# Altium schematic symbol library AMAP4BPEVBKXR Rev 2.SCHLIB: 87 symbols (part 2 of 3)
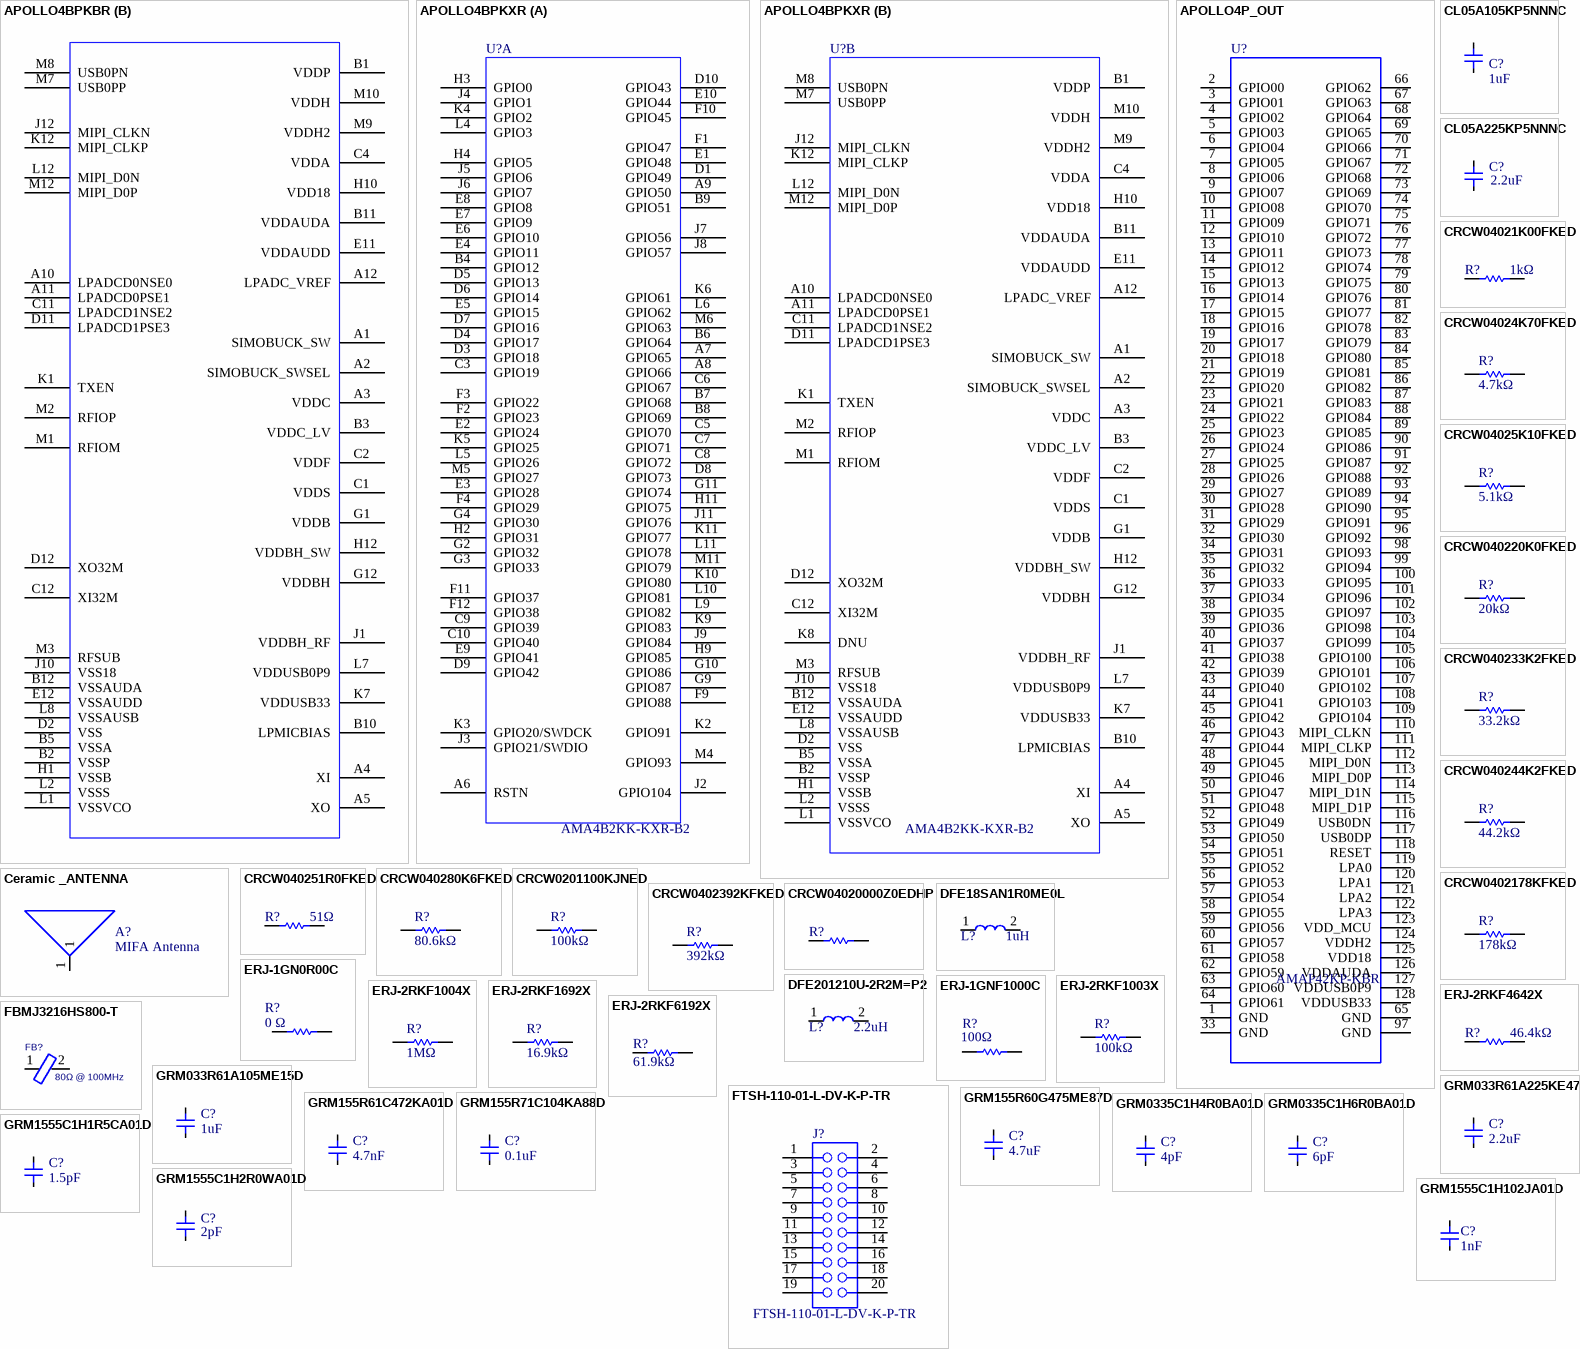
[diagram p3: symbols APOLLO4BPKBR to GRM1555C1H102JA01D]

## DFE201210U-2R2M=P2
designator L?, comment 2.2uH
NONE; Manufacturer: Murata; AMBIQ PN: DFE201210U-2R2M=P2; Supplier 1: Arrow Electronics; Supplier Part Number 1: DFE201210U-2R2M=P2; Manufacturer Part Number: DFE201210U-2R2M=P2; RoHS: Yes; Category: Fixed Inductors; Stock 1: 206; Pricing 1: 1=0.40140, 10=0.29940, 25=0.27320, 100=0.22140 (USD); RoHS Compliant: Yes; ComponentLink1URL: http://search.murata.co.jp/Ceramy/image/img/P02/J(E)TE243A-0029_DFE201210U_reference.pdf?src-supplier=Digi-Key; ComponentLink1Description: http://search.murata.co.jp/Ceramy/image/img/P02/J(E)TE243A-0029_DFE201210U_reference.pdf?src-supplier=Digi-Key; Case/Package: 0805
footprint IPC_A
footprint IPC_B
footprint IPC_C
footprint MFG
pins: 1, 2

## ERJ-1GN0R00C
designator R?, comment 0 Ω
ERJ Series 0201 0 Ohm 0.05 W Jumper Surface Mount Thick Film Chip Resistor; Manufacturer: Panasonic; AMBIQ PN: ERJ-1GN0R00C; Resistance: 0R; Power Rating: 50mW; Voltage Rating: 25V; Temperature Coefficient: 600ppm/°C; Tolerance: 1%; Supplier 1: RSComponents; Supplier Part Number 1: 1755716; Manufacturer Part Number: ERJ-1GN0R00C; RoHS: Yes; Category: Chip SMD Resistors; Stock 1: 577637; Pricing 1: 15000=0.00500 (GBP); Mount: Surface Mount; Case/Package: 0201; Case Code (Metric): 0603; Case Code (Imperial): 0201; Contact Plating: Tin; Min Operating Temperature: -55°C; Max Operating Temperature: 125°C; Package Quantity: 15000; Packaging: Tape and Reel; Resistor Type: Thick Film; Number of Terminations: 2; Max Power Dissipation: 50mW; Voltage Rating (DC): 25V; Features: Automotive AEC-Q200; Series: ERJ; Construction: Rectangular; Length: 0.6mm; Width: 0.3mm; Height: 0.23mm; Depth: 0.3mm
footprint IPC_A
footprint IPC_B
footprint IPC_C
footprint MFG
pins: 1, 2
1 alternate drawing of the same symbol

## ERJ-1GNF1000C
designator R?, comment 100Ω
Res Thick Film 0201 100 Ohm 1% 1/20W ±200ppm/°C Molded SMD Pressed Carrier T/R; Manufacturer: Panasonic; AMBIQ PN: ERJ-1GNF1000C; Resistance: 100R; Power Rating: 50mW; Voltage Rating: 25V; Supplier 1: Arrow Electronics; Supplier Part Number 1: ERJ-1GNF1000C; Manufacturer Part Number: ERJ-1GNF1000C; RoHS: Yes; Category: Chip SMD Resistors; Stock 1: 15000; Pricing 1: 15000=0.00660, 30000=0.00560, 75000=0.00530, 105000=0.00520 (USD); Mount: Surface Mount; Case/Package: 0201; Weight: 6E-06oz; Case Code (Metric): 0603; Case Code (Imperial): 0201; Contact Plating: Tin,Matte; Min Operating Temperature: -55°C; Max Operating Temperature: 125°C; Package Quantity: 15000; Packaging: Tape and Reel; Resistor Type: Thick Film; Number of Terminations: 2; Termination: SMD/SMT; Max Power Dissipation: 50mW; Temperature Coefficient: 200ppm/°C; Voltage Rating (DC): 25V; Series: ERJ; Technology: THICK FILM; Construction: Rectangular; Length: 0.6mm; Width: 0.012inch; Height: 0.01inch; Depth: 0.3mm; Radiation Hardening: No; REACH SVHC: No SVHC; Military Standard: Not; Lead Free: Lead Free; RoHS Compliant: Yes; ComponentLink1URL: https://datasheet.ciiva.com/43467/1678782-43467030.pdf?src-supplier=Farnell; ComponentLink1Description: https://datasheet.ciiva.com/43467/1678782-43467030.pdf?src-supplier=Farnell; ComponentLink2URL: https://datasheet.ciiva.com/28514/1678782-28514079.pdf?src-supplier=Element14; ComponentLink2Description: https://datasheet.ciiva.com/28514/1678782-28514079.pdf?src-supplier=Element14; ComponentLink3URL: https://datasheet.ciiva.com/24162/aoa0000ce2-24162875.pdf?src-supplier=Mouser; Tolerance: 1%; Number of Pins: 2; Resistance Tolerance: 1%; Working Voltage: 25V; ComponentLink3Description: https://datasheet.ciiva.com/24162/aoa0000ce2-24162
footprint IPC_A
footprint IPC_B
footprint IPC_C
footprint MFG
pins: 1, 2
1 alternate drawing of the same symbol

## ERJ-2RKF1003X
designator R?, comment 100kΩ
RES SMD 100K OHM 1% 1/10W 0402; Manufacturer: Panasonic; AMBIQ PN: ERJ-2RKF1003X; Resistance: 100kR; Power Rating: 100mW; Voltage Rating: 50V; Temperature Coefficient: 100ppm/°C; Supplier 1: Arrow Electronics; Supplier Part Number 1: ERJ-2RKF1003X; Manufacturer Part Number: ERJ-2RKF1003X; RoHS: Yes; Category: Chip SMD Resistors; Stock 1: 267708; Pricing 1: 10000=0.00840 (USD); Mount: Surface Mount; Case/Package: 0402; Weight: 0.000388oz; Case Code (Metric): 1005; Case Code (Imperial): 0402; Contact Plating: Tin; Min Operating Temperature: -55°C; Max Operating Temperature: 155°C; Package Quantity: 10000; Packaging: Cut Tape; Resistor Type: Thick Film; Number of Terminations: 2; Termination: SMD/SMT; Max Power Dissipation: 100mW; Voltage Rating (DC): 50V; Features: Automotive AEC-Q200; Series: ERJ-2Rx; Technology: THICK FILM; Length: 1mm; Width: 0.5mm; Height: 0.35mm; Depth: 0.5mm; Radiation Hardening: No; REACH SVHC: No SVHC; Military Standard: Not; Lead Free: Lead Free; RoHS Compliant: Yes; ComponentLink1URL: https://datasheet.ciiva.com/34303/1987038-34303550.pdf?src-supplier=Jameco; ComponentLink1Description: https://datasheet.ciiva.com/34303/1987038-34303550.pdf?src-supplier=Jameco; ComponentLink2URL: https://datasheet.ciiva.com/11821/0900766b80f80784-11821175.pdf?src-supplier=RSComponents; ComponentLink2Description: https://datasheet.ciiva.com/11821/0900766b80f80784-11821175.pdf?src-supplier=RSComponents; ComponentLink3URL: https://datasheet.ciiva.com/7830/aoa0000ce2-7830725.pdf?src-supplier=Element14; Tolerance: 1%; Number of Pins: 2
footprint IPC_A
footprint IPC_B
footprint IPC_C
footprint MFG
pins: 1, 2
1 alternate drawing of the same symbol

## ERJ-2RKF1004X
designator R?, comment 1MΩ
RES SMD 1M OHM 1% 1/10W 0402; Manufacturer: Panasonic; AMBIQ PN: ERJ-2RKF1004X; Resistance: 1MR; Power Rating: 100mW; Voltage Rating: 50V; Temperature Coefficient: 100ppm/°C; Supplier 1: Arrow Electronics; Supplier Part Number 1: ERJ-2RKF1004X; Manufacturer Part Number: ERJ-2RKF1004X; RoHS: Yes; Category: Chip SMD Resistors; Stock 1: 330000; Pricing 1: 10000=0.00500, 30000=0.00450, 50000=0.00440, 100000=0.00400 (USD); Mount: Surface Mount; Case/Package: 0402; Weight: 2.8E-05oz; Case Code (Metric): 1005; Case Code (Imperial): 0402; Contact Plating: Tin; Min Operating Temperature: -55°C; Max Operating Temperature: 155°C; Package Quantity: 1; Packaging: Tape and Reel; Resistor Type: Thick Film; Number of Terminations: 2; Termination: SMD/SMT; Max Power Dissipation: 100mW; Voltage Rating (DC): 50V; Features: Automotive AEC-Q200; Series: ERJ; Technology: THICK FILM; Construction: Rectangular; Length: 1mm; Width: 0.02inch; Height: 0.35mm; Depth: 0.5mm; Radiation Hardening: No; REACH SVHC: Yes; Military Standard: Not; Lead Free: Lead Free; RoHS Compliant: Yes; ComponentLink1URL: https://datasheet.ciiva.com/34303/1987046-34303551.pdf; ComponentLink1Description: https://datasheet.ciiva.com/34303/1987046-34303551.pdf; ComponentLink2URL: https://datasheet.ciiva.com/11821/0900766b80f80784-11821229.pdf; ComponentLink2Description: https://datasheet.ciiva.com/11821/0900766b80f80784-11821229.pdf; ComponentLink3URL: https://datasheet.ciiva.com/7909/aoa0000ce2-7909180.pdf; Tolerance: 1%; Number of Pins: 2; Resistance Tolerance: 1%; Working Voltage: 50V
footprint IPC_A
footprint IPC_B
footprint IPC_C
footprint MFG
pins: 1, 2
1 alternate drawing of the same symbol

## ERJ-2RKF1692X
designator R?, comment 16.9kΩ
Res Thick Film 0402 16.9K Ohm 1% 1/10W ±100ppm/°C Molded SMD Punched Carrier T/R; Manufacturer: Panasonic; AMBIQ PN: ERJ-2RKF1692X; Resistance: 16.9kR; Power Rating: 100mW; Voltage Rating: 50V; Supplier 1: Arrow Electronics; Supplier Part Number 1: ERJ-2RKF1692X; Manufacturer Part Number: ERJ-2RKF1692X; RoHS: Yes; Category: Chip SMD Resistors; Stock 1: 49794; Pricing 1: 1=0.06510, 10=0.02940, 25=0.01530, 100=0.00800, 500=0.00790, 1000=0.00470, 3000=0.00380, 6000=0.00350, 15000=0.00270 (USD); Mount: Surface Mount; Case/Package: 0402; Weight: 2.8E-05oz; Case Code (Metric): 1005; Case Code (Imperial): 0402; Contact Plating: Tin; Min Operating Temperature: -55°C; Max Operating Temperature: 155°C; Package Quantity: 1; Packaging: Tape and Reel; Resistor Type: Thick Film; Number of Terminations: 2; Termination: SMD/SMT; Max Power Dissipation: 100mW; Temperature Coefficient: 100ppm/°C; Voltage Rating (DC): 50V; Features: Automotive AEC-Q200; Series: ERJ; Construction: Rectangular; Length: 1mm; Width: 0.02inch; Height: 0.016inch; Depth: 0.5mm; REACH SVHC: Unknown; Military Standard: Not; Lead Free: Lead Free; RoHS Compliant: Yes; ComponentLink1URL: https://datasheet.ciiva.com/7829/1678782-7829302.pdf?src-supplier=Element14; ComponentLink1Description: https://datasheet.ciiva.com/7829/1678782-7829302.pdf?src-supplier=Element14; ComponentLink2URL: https://datasheet.ciiva.com/22773/1678782-22773610.pdf?src-supplier=Farnell; ComponentLink2Description: https://datasheet.ciiva.com/22773/1678782-22773610.pdf?src-supplier=Farnell; ComponentLink3URL: https://datasheet.ciiva.com/22668/1678782-22668622.pdf?src-supplier=Element14; Tolerance: 1%; Resistance Tolerance: 1%; ComponentLink3Description: https://datasheet.ciiva.com/22668/1678782-22668622; ComponentLink4URL: https://datasheet.ciiva.com/22668/1678782-22668621; ComponentLink4Description: https://datasheet.ciiva.com/22668/1678782-22668621; ComponentLink5URL: https://datasheet.ciiva.com/28548/1694929-28548252; ComponentLink5Description: https://datasheet.ciiva.com/28548/1694929-28548252; ComponentLink6URL: https://datasheet.ciiva.com/46420/1678782-46420069; ComponentLink6Description: https://datasheet.ciiva.com/46420/1678782-46420069; ComponentLink7URL: https://datasheet.ciiva.com/16772/70260748-1677257; ComponentLink7Description: https://datasheet.ciiva.com/16772/70260748-1677257; ComponentLink8URL: https://datasheet.ciiva.com/16785/70260748-1678529; ComponentLink8Description: https://datasheet.ciiva.com/16785/70260748-1678529; ComponentLink9URL: https://datasheet.ciiva.com/9192/aoa0000ce2-919261; ComponentLink9Description: https://datasheet.ciiva.com/9192/aoa0000ce2-919261; ComponentLink10URL: https://datasheet.ciiva.com/30252/aoa0000ce2-30252; ComponentLink10Description: https://datasheet.ciiva.com/30252/aoa0000ce2-30252
footprint IPC_A
footprint IPC_B
footprint IPC_C
footprint MFG
pins: 1, 2
1 alternate drawing of the same symbol

## ERJ-2RKF4642X
designator R?, comment 46.4kΩ
Res Thick Film 0402 46.4K Ohm 1% 1/10W ±100ppm/°C Molded SMD Punched Carrier T/R; Manufacturer: Panasonic; AMBIQ PN: ERJ-2RKF4642X; Resistance: 46.4kR; Power Rating: 100mW; Voltage Rating: 50V; Supplier 1: Arrow Electronics; Supplier Part Number 1: ERJ-2RKF4642X; Manufacturer Part Number: ERJ-2RKF4642X; RoHS: Yes; Category: Chip SMD Resistors; Stock 1: 70000; Pricing 1: 10000=0.00520 (USD); Mount: Surface Mount; Case/Package: 0402; Case Code (Metric): 1005; Case Code (Imperial): 0402; Contact Plating: Tin; Min Operating Temperature: -55°C; Max Operating Temperature: 155°C; Package Quantity: 1; Packaging: Tape and Reel; Resistor Type: Thick Film; Number of Terminations: 2; Termination: SMD/SMT; Max Power Dissipation: 100mW; Temperature Coefficient: 100ppm/°C; Voltage Rating (DC): 50V; Features: Automotive AEC-Q200; Series: ERJ; Technology: THICK FILM; Construction: Rectangular; Length: 1mm; Width: 0.02inch; Height: 0.35mm; Depth: 0.5mm; Radiation Hardening: No; REACH SVHC: Yes; Military Standard: Not; Lead Free: Lead Free; RoHS Compliant: Yes; ComponentLink1URL: https://datasheet.ciiva.com/7870/aoa0000ce2-7870821.pdf?src-supplier=Element14; ComponentLink1Description: https://datasheet.ciiva.com/7870/aoa0000ce2-7870821.pdf?src-supplier=Element14; ComponentLink2URL: https://datasheet.ciiva.com/43467/1678782-43467454.pdf?src-supplier=Farnell; ComponentLink2Description: https://datasheet.ciiva.com/43467/1678782-43467454.pdf?src-supplier=Farnell; ComponentLink3URL: https://datasheet.ciiva.com/46372/1678782-46372975.pdf?src-supplier=Element14; Tolerance: 1%; Resistance Tolerance: 1%
footprint IPC_A
footprint IPC_B
footprint IPC_C
footprint MFG
pins: 1, 2
1 alternate drawing of the same symbol

## ERJ-2RKF6192X
designator R?, comment 61.9kΩ
Res Thick Film 0402 61.9K Ohm 1% 1/10W +/-100ppm/ßC Molded SMD Punched Carrier T/R; Manufacturer: Panasonic; AMBIQ PN: ERJ-2RKF6192X; Resistance: 61.9kR; Power Rating: 100mW; Voltage Rating: 50V; Temperature Coefficient: 100ppm/°C; Supplier 1: Arrow Electronics; Supplier Part Number 1: ERJ-2RKF6192X; Manufacturer Part Number: ERJ-2RKF6192X; RoHS: Yes; Category: Chip SMD Resistors; Stock 1: 50040; Pricing 1: 1=0.05180, 10=0.02920, 25=0.02020 (USD); Mount: Surface Mount; Case/Package: 0402; Case Code (Metric): 1005; Case Code (Imperial): 0402; Contact Plating: Tin; Min Operating Temperature: -55°C; Max Operating Temperature: 155°C; Package Quantity: 1; Packaging: Tape and Reel; Resistor Type: Thick Film; Number of Terminations: 2; Termination: SMD/SMT; Max Power Dissipation: 100mW; Voltage Rating (DC): 50V; Features: Automotive AEC-Q200; Series: ERJ; Construction: Rectangular; Length: 1mm; Width: 0.02inch; Height: 0.016inch; Depth: 0.5mm; REACH SVHC: No SVHC; Military Standard: Not; Lead Free: Lead Free; RoHS Compliant: Yes; ComponentLink1URL: https://datasheet.ciiva.com/31404/1678782-31404872.pdf?src-supplier=Farnell; ComponentLink1Description: https://datasheet.ciiva.com/31404/1678782-31404872.pdf?src-supplier=Farnell; ComponentLink2URL: https://datasheet.ciiva.com/6201/426256-6201383.pdf?src-supplier=Farnell; ComponentLink2Description: https://datasheet.ciiva.com/6201/426256-6201383.pdf?src-supplier=Farnell; ComponentLink3URL: https://datasheet.ciiva.com/43460/426256-43460335.pdf?src-supplier=Farnell; Tolerance: 1%; Resistance Tolerance: 1%
footprint IPC_A
footprint IPC_B
footprint IPC_C
footprint MFG
pins: 1, 2
1 alternate drawing of the same symbol

## FBMJ3216HS800-T
designator FB?, comment 80Ω @ 100MHz
NONE; Manufacturer: Taiyo Yuden; AMBIQ PN: FBMJ3216HS800-T; Core Material: Ferrite; Impedance: 80R; Tolerance: 25%; DC Resistance (DCR): 10mR; Max DC Current: 4A; Number of Lines: 1; Shielding: Unshielded; Supplier 1: Newark; Supplier Part Number 1: 86H5353; Manufacturer Part Number: FBMJ3216HS800-T; RoHS: Yes; Category: Ferrite Beads and Chips; Stock 1: 265; Pricing 1: 1=0.30000, 10=0.20700, 25=0.17700, 50=0.14800, 100=0.11800 (USD); ComponentLink1URL: https://datasheet.ciiva.com/5709/chipbeads01-e-5709344.pdf?src-supplier=Farnell; ComponentLink1Description: https://datasheet.ciiva.com/5709/chipbeads01-e-5709344.pdf?src-supplier=Farnell; Mount: Surface Mount; Case/Package: 1206; Number of Pins: 2; Case Code (Metric): 3216; Case Code (Imperial): 1206; Material: Ferrite; Min Operating Temperature: -40°C; Max Operating Temperature: 125°C; Packaging: Tape and Reel; Resistance: 10mR; Package Quantity: 1; Max Current Rating: 4A; Termination: SMD/SMT; Test Frequency: 100MHz; Frequency: 100MHz; Series: FB; Resistor Type: Ferrite Bead; Length: 3.2mm; Width: 0.063inch; Height: 1.3mm; Depth: 1.8mm; Lead Free: Lead Free; Halogen Free: Halogen Free; REACH SVHC: No SVHC; ComponentLink2URL: https://datasheet.ciiva.com/16001/202fbmj3216hs800-t-16001070.pdf?src-supplier=Onlinecomponents.com; ComponentLink2Description: https://datasheet.ciiva.com/16001/202fbmj3216hs800-t-16001070.pdf?src-supplier=Onlinecomponents.com; ComponentLink3URL: https://datasheet.ciiva.com/30088/23fbmj3216hs800-t-30088710.pdf?src-supplier=Onlinecomponents.com; ComponentLink3Description: https://datasheet.ciiva.com/30088/23fbmj3216hs800-t-30088710.pdf?src-supplier=Onlinecomponents.com; ComponentLink4URL: https://datasheet.ciiva.com/23606/fbmj3216hs800-t-ss-23606768.pdf?src-supplier=Newark; ComponentLink4Description: https://datasheet.ciiva.com/23606/fbmj3216hs800-t-ss-23606768.pdf?src-supplier=Newark; ComponentLink5URL: https://datasheet.ciiva.com/25614/0900766b810b37be-25614395.pdf?src-supplier=RSComponents; ComponentLink5Description: https://datasheet.ciiva.com/25614/0900766b810b37be-25614395.pdf?src-supplier=RSComponents; ComponentLink6URL: https://datasheet.ciiva.com/6212/chipbeads01-e-6212909.pdf?src-supplier=Digi-Key; ComponentLink6Description: https://datasheet.ciiva.com/6212/chipbeads01-e-6212909.pdf?src-supplier=Digi-Key; ComponentLink7URL: https://datasheet.ciiva.com/7966/chipbeads01-e-7966171.pdf?src-supplier=Element14; ComponentLink7Description: https://datasheet.ciiva.com/7966/chipbeads01-e-7966171.pdf?src-supplier=Element14
footprint IPC_A
footprint IPC_B
footprint IPC_C
pins: 1, 2

## FTSH-110-01-L-DV-K-P-TR
designator J?
None; Manufacturer: Samtec; Connector Type: Male Pin; Number of Contacts: 20; Pitch: 1.27mm; Max Current Rating: 1.75A; Row Spacing: 0.05inch; AMBIQ PN: FTSH-110-01-L-DV-K-P-TR; Supplier 1: Arrow Electronics; Supplier Part Number 1: FTSH-110-01-L-DV-K-P-TR; Manufacturer Part Number: FTSH-110-01-L-DV-K-P-TR; RoHS: Yes; Category: Headers and Wire Housings; Stock 1: 3600; Pricing 1: 400=4.22000 (USD); Mount: Surface Mount; Contact Material: Bronze; Contact Plating: Gold; Housing Material: Polymer; Min Operating Temperature: -55°C; Max Operating Temperature: 125°C; Packaging: Tape and Reel; Orientation: Straight; Termination: Solder; Length: 12.7mm; ComponentLink1URL: https://datasheet.ciiva.com/738/ftsh-1xx-xx-xxx-dv-xxx-mkt-738875.pdf?src-supplier=Digi-Key; ComponentLink1Description: https://datasheet.ciiva.com/738/ftsh-1xx-xx-xxx-dv-xxx-mkt-738875.pdf?src-supplier=Digi-Key; Housing Color: Black; Number of Rows: 2; Number of Positions: 20; Series: FTSH; Depth: 3.43mm; Radiation Hardening: No; Color: Black; Contact Type: Male Pin; Package Quantity: 400; Contact Mating Length: 0.12inch; Lead Free: Lead Free
footprint SAMTEC_FTSH-110-X-X-DV
pins: 1 A1, 2 B1, 3 A2, 4 B2, 5 A3, 6 B3, 7 A4, 8 B4, 9 A5, 10 B5, 11, 12, 13, 14, 15, 16, 17, 18, 19, 20

## GRM033R61A105ME15D
designator C?, comment 1uF
NONE; Manufacturer: Murata; AMBIQ PN: GRM033R61A105ME15D; Tolerance: 20%; Voltage Rating: 10V; Dielectric: X5R; Supplier 1: Arrow Electronics; Supplier Part Number 1: GRM033R61A105ME15D; Manufacturer Part Number: GRM033R61A105ME15D; RoHS: Yes; Category: Ceramic Capacitors; Stock 1: 387591; Pricing 1: 1=0.35440, 10=0.26860, 25=0.26600, 50=0.24050, 100=0.18220, 250=0.18020, 500=0.17800, 1000=0.12040, 3000=0.11920, 6000=0.08160,; Mount: Surface Mount; Case/Package: 0201; Case Code (Metric): 0603; Case Code (Imperial): 0201; Min Operating Temperature: -55°C; Max Operating Temperature: 85°C; Capacitance: 1uF; Packaging: Tape and Reel; Voltage Rating (DC): 10V; Length: 0.024inch; Width: 0.012inch; Thickness: 0.015inch; RoHS Compliant: Yes; ComponentLink1URL: http://search.murata.co.jp/Ceramy/image/img/A01X/G101/ENG/GRM033R61A105ME15-01.pdf?src-supplier=Digi-Key; ComponentLink1Description: http://search.murata.co.jp/Ceramy/image/img/A01X/G101/ENG/GRM033R61A105ME15-01.pdf?src-supplier=Digi-Key
footprint IPC_A
footprint IPC_B
footprint IPC_C
footprint MFG
pins: 1, 2

## GRM033R61A225KE47D
designator C?, comment 2.2uF
NONE; Manufacturer: Murata; AMBIQ PN: GRM033R61A225KE47D; Tolerance: 10%; Voltage Rating: 10V; Dielectric: X5R; Supplier 1: Arrow Electronics; Supplier Part Number 1: GRM033R61A225KE47D; Manufacturer Part Number: GRM033R61A225KE47D; RoHS: Yes; Category: Ceramic Capacitors; Stock 1: 990; Pricing 1: 1=0.27590, 10=0.23000, 25=0.18010, 100=0.10000, 250=0.09900, 500=0.06860, 1000=0.06790, 3000=0.06720, 6000=0.05140, 15000=0.050; Mount: Surface Mount; Case/Package: 0201; Case Code (Metric): 0603; Case Code (Imperial): 0201; Min Operating Temperature: -55°C; Max Operating Temperature: 85°C; Capacitance: 2.2uF; Packaging: Tape and Reel; Voltage Rating (DC): 10V; Length: 0.024inch; Width: 0.012inch; Thickness: 0.015inch; RoHS Compliant: Yes; ComponentLink1URL: http://search.murata.co.jp/Ceramy/image/img/A01X/G101/ENG/GRM033R61A225KE47-01.pdf?src-supplier=Digi-Key; ComponentLink1Description: http://search.murata.co.jp/Ceramy/image/img/A01X/G101/ENG/GRM033R61A225KE47-01.pdf?src-supplier=Digi-Key
footprint IPC_A
footprint IPC_B
footprint IPC_C
footprint MFG
pins: 1, 2

## GRM155R60G475ME87D
designator C?, comment 4.7uF
NONE; Manufacturer: Murata; AMBIQ PN: GRM155R60G475ME87D; Tolerance: 20%; Voltage Rating: 4V; Dielectric: X5R; Supplier 1: Arrow Electronics; Supplier Part Number 1: GRM155R60G475ME87D; Manufacturer Part Number: GRM155R60G475ME87D; RoHS: Yes; Category: Ceramic Capacitors; Stock 1: 79890; Pricing 1: 1=0.12440, 10=0.07530, 25=0.07460, 100=0.04310, 250=0.04270, 500=0.02940, 1000=0.02580, 3000=0.02370, 6000=0.02210, 15000=0.021; Mount: Surface Mount; Case/Package: 0402; Case Code (Metric): 1005; Case Code (Imperial): 0402; Min Operating Temperature: -55°C; Max Operating Temperature: 85°C; Capacitance: 4.7uF; Packaging: Tape and Reel; Voltage: 4V; Voltage Rating (DC): 4V; Series: GRM; Construction: Flat; Length: 1mm; Width: 0.02inch; Height: 0.5mm; Thickness: 0.026inch; Depth: 0.5mm; Radiation Hardening: No; REACH SVHC: No SVHC; Lead Free: Lead Free; RoHS Compliant: Yes; ComponentLink1URL: https://datasheet.ciiva.com/11613/c02e-11613181.pdf?src-supplier=Avnet; ComponentLink1Description: https://datasheet.ciiva.com/11613/c02e-11613181.pdf?src-supplier=Avnet
footprint IPC_A
footprint IPC_B
footprint IPC_C
footprint MFG
pins: 1, 2

## GRM155R61C472KA01D
designator C?, comment 4.7nF
NONE; Manufacturer: Murata; AMBIQ PN: GRM155R61C472KA01D; Tolerance: 10%; Voltage Rating: 16V; Dielectric: X5R; Supplier 1: Arrow Electronics; Supplier Part Number 1: GRM155R61C472KA01D; Manufacturer Part Number: GRM155R61C472KA01D; RoHS: Yes; Category: Ceramic Capacitors; Stock 1: 3; Pricing 1: 1=0.07090 (USD); Mount: Surface Mount; Case/Package: 0402; Case Code (Metric): 1005; Case Code (Imperial): 0402; Min Operating Temperature: -55°C; Max Operating Temperature: 85°C; Capacitance: 4.7nF; Packaging: Tape and Reel; Voltage Rating (DC): 16V; Series: GRM; Construction: Flat; Length: 1mm; Width: 0.02inch; Height: 0.5mm; Thickness: 0.022inch; Depth: 0.5mm; Radiation Hardening: No; RoHS Compliant: Yes; ComponentLink1URL: https://datasheet.ciiva.com/11620/product-11620403.pdf?src-supplier=Avnet; ComponentLink1Description: https://datasheet.ciiva.com/11620/product-11620403.pdf?src-supplier=Avnet; Package Quantity: 10000; Termination: SMD/SMT
footprint IPC_A
footprint IPC_B
footprint IPC_C
footprint MFG
pins: 1, 2

## GRM155R71C104KA88D
designator C?, comment 0.1uF
NONE; Manufacturer: Murata; AMBIQ PN: GRM155R71C104KA88D; Capacitance: 100nF; Tolerance: 10%; Voltage Rating: 16V; Dielectric: X7R; Dielectric Material: Ceramic; Insulation Resistance: 10GR; Supplier 1: Arrow Electronics; Supplier Part Number 1: GRM155R71C104KA88D; Manufacturer Part Number: GRM155R71C104KA88D; RoHS: Yes; Category: Ceramic Capacitors; Stock 1: 20200000; Pricing 1: 10000=0.00270, 30000=0.00220, 250000=0.00210 (USD); Mount: Surface Mount; Case/Package: 0402; Case Code (Metric): 1005; Case Code (Imperial): 0402; Min Operating Temperature: -55°C; Max Operating Temperature: 125°C; Packaging: Tape and Reel; Voltage: 16V; Voltage Rating (DC): 16V; Length: 1mm; Width: 0.5mm; Height: 0.5mm; Thickness: 0.022inch; Depth: 0.5mm; Radiation Hardening: No; REACH SVHC: No SVHC; Lead Free: Lead Free; RoHS Compliant: Yes; ComponentLink1URL: https://datasheet.ciiva.com/129/grm155r71c104ka88-01-129739.pdf?src-supplier=Digi-Key; ComponentLink1Description: https://datasheet.ciiva.com/129/grm155r71c104ka88-01-129739.pdf?src-supplier=Digi-Key; Package Quantity: 1; Termination: SMD/SMT; Number of Pins: 2; Material: Ceramic; ComponentLink2URL: https://datasheet.ciiva.com/129/grm155r71c104ka88-01-129740.pdf?src-supplier=Digi-Key; ComponentLink2Description: https://datasheet.ciiva.com/129/grm155r71c104ka88-01-129740.pdf?src-supplier=Digi-Key; ComponentLink3URL: https://datasheet.ciiva.com/18102/getdatasheetpartid-85307-18102905.pdf?src-supplier=Verical; ComponentLink3Description: https://datasheet.ciiva.com/18102/getdatasheetpartid-85307-18102905.pdf?src-supplier=Verical
footprint IPC_A
footprint IPC_B
footprint IPC_C
footprint MFG
pins: 1, 2

## GRM0335C1H4R0BA01D
designator C?, comment 4pF
NONE; Manufacturer: Murata; AMBIQ PN: GRM0335C1H4R0BA01D; Voltage Rating: 50V; Dielectric: C0G; Supplier 1: Arrow Electronics; Supplier Part Number 1: GRM0335C1H4R0BA01D; Manufacturer Part Number: GRM0335C1H4R0BA01D; RoHS: Yes; Category: Ceramic Capacitors; Stock 1: 3508; Pricing 1: 1=0.09680, 10=0.01620, 25=0.01560, 100=0.00890, 250=0.00860, 500=0.00620, 3000=0.00530 (USD); Mount: Surface Mount; Case/Package: 0201; Case Code (Metric): 0603; Case Code (Imperial): 0201; Min Operating Temperature: -55°C; Max Operating Temperature: 125°C; Capacitance: 4pF; Packaging: Tape and Reel; Voltage Rating (DC): 50V; Series: GRM; Length: 0.6mm; Width: 0.012inch; Height: 0.3mm; Thickness: 0.013inch; Depth: 0.3mm; ComponentLink1URL: http://www.mouser.com/ds/2/281/c02e-2905.pdf?src-supplier=Mouser; ComponentLink1Description: http://www.mouser.com/ds/2/281/c02e-2905.pdf?src-supplier=Mouser; Package Quantity: 15000; Termination: SMD/SMT
footprint IPC_A
footprint IPC_B
footprint IPC_C
footprint MFG
pins: 1, 2

## GRM0335C1H6R0BA01D
designator C?, comment 6pF
NONE; Manufacturer: Murata; AMBIQ PN: GRM0335C1H6R0BA01D; Voltage Rating: 50V; Dielectric: C0G; Supplier 1: Arrow Electronics; Supplier Part Number 1: GRM0335C1H6R0BA01D; Manufacturer Part Number: GRM0335C1H6R0BA01D; RoHS: Yes; Category: Ceramic Capacitors; Stock 1: 4052; Pricing 1: 1=0.06400, 10=0.01810, 25=0.01250, 100=0.00850, 250=0.00840, 500=0.00620, 1000=0.00510, 3000=0.00460 (USD); Mount: Surface Mount; Case/Package: 0201; Case Code (Metric): 0603; Case Code (Imperial): 0201; Min Operating Temperature: -55°C; Max Operating Temperature: 125°C; Capacitance: 6pF; Packaging: Tape and Reel; Voltage Rating (DC): 50V; Series: GRM; Length: 0.024inch; Width: 0.012inch; Height: 0.3mm; Thickness: 0.013inch; RoHS Compliant: Yes; ComponentLink1URL: http://www.mouser.com/ds/2/281/c02e-2905.pdf?src-supplier=Mouser; ComponentLink1Description: http://www.mouser.com/ds/2/281/c02e-2905.pdf?src-supplier=Mouser; Package Quantity: 15000; Termination: SMD/SMT
footprint IPC_A
footprint IPC_B
footprint IPC_C
footprint MFG
pins: 1, 2

## GRM1555C1H1R5CA01D
designator C?, comment 1.5pF
NONE; Manufacturer: Murata; AMBIQ PN: GRM1555C1H1R5CA01D; Supplier 1: Avnet; Supplier Part Number 1: GRM1555C1H1R5CA01D; Manufacturer Part Number: GRM1555C1H1R5CA01D; RoHS: Yes; Category: Ceramic Capacitors; Stock 1: 20000; Pricing 1: 10000=0.00487, 20000=0.00476, 40000=0.00465 (USD); Mount: Surface Mount; Case/Package: 0402; Case Code (Metric): 1005; Case Code (Imperial): 0402; Capacitance: 1.5pF; Mounting Technology: Surface Mount
footprint IPC_A
footprint IPC_B
footprint IPC_C
footprint MFG
pins: 1, 2

## GRM1555C1H2R0WA01D
designator C?, comment 2pF
NONE; Manufacturer: Murata; AMBIQ PN: GRM1555C1H2R0WA01D; Tolerance: 1%; Dielectric: C0G; Supplier 1: Arrow Electronics; Supplier Part Number 1: GRM1555C1H2R0WA01D; Manufacturer Part Number: GRM1555C1H2R0WA01D; RoHS: Yes; Category: Ceramic Capacitors; Stock 1: 54; Pricing 1: 1=0.10000, 10=0.05720, 25=0.05660, 100=0.03540, 250=0.03000 (USD); Mount: Surface Mount; Case/Package: 0402; Case Code (Metric): 1005; Case Code (Imperial): 0402; Capacitance: 2pF
footprint IPC_A
footprint IPC_B
footprint IPC_C
footprint MFG
pins: 1, 2

## GRM1555C1H102JA01D
designator C?, comment 1nF
NONE; Manufacturer: Murata; AMBIQ PN: GRM1555C1H102JA01D; Tolerance: 5%; Voltage Rating: 50V; Dielectric: C0G; Dielectric Material: Ceramic; Insulation Resistance: 10GR; Temperature Coefficient: 30ppm/°C; Supplier 1: Arrow Electronics; Supplier Part Number 1: GRM1555C1H102JA01D; Manufacturer Part Number: GRM1555C1H102JA01D; RoHS: Yes; Category: Ceramic Capacitors; Stock 1: 3380000; Pricing 1: 10000=0.00710, 20000=0.00680, 30000=0.00660, 50000=0.00590, 100000=0.00470 (USD); Mount: Surface Mount; Case/Package: 0402; Case Code (Metric): 1005; Case Code (Imperial): 0402; Min Operating Temperature: -55°C; Max Operating Temperature: 125°C; Capacitance: 1nF; Packaging: Tape and Reel; Voltage: 50V; Voltage Rating (DC): 50V; Series: GRM; Construction: Flat; Length: 1mm; Width: 0.5mm; Height: 0.5mm; Thickness: 0.022inch; Depth: 0.5mm; Radiation Hardening: No; REACH SVHC: No SVHC; Lead Free: Lead Free; RoHS Compliant: Yes; ComponentLink1URL: https://datasheet.ciiva.com/34302/1855908-34302849.pdf?src-supplier=Jameco; ComponentLink1Description: https://datasheet.ciiva.com/34302/1855908-34302849.pdf?src-supplier=Jameco; Package Quantity: 1; Termination: SMD/SMT; Number of Pins: 2; Material: Ceramic; Size: 0.5mm
footprint IPC_A
footprint IPC_B
footprint IPC_C
footprint MFG
pins: 1, 2

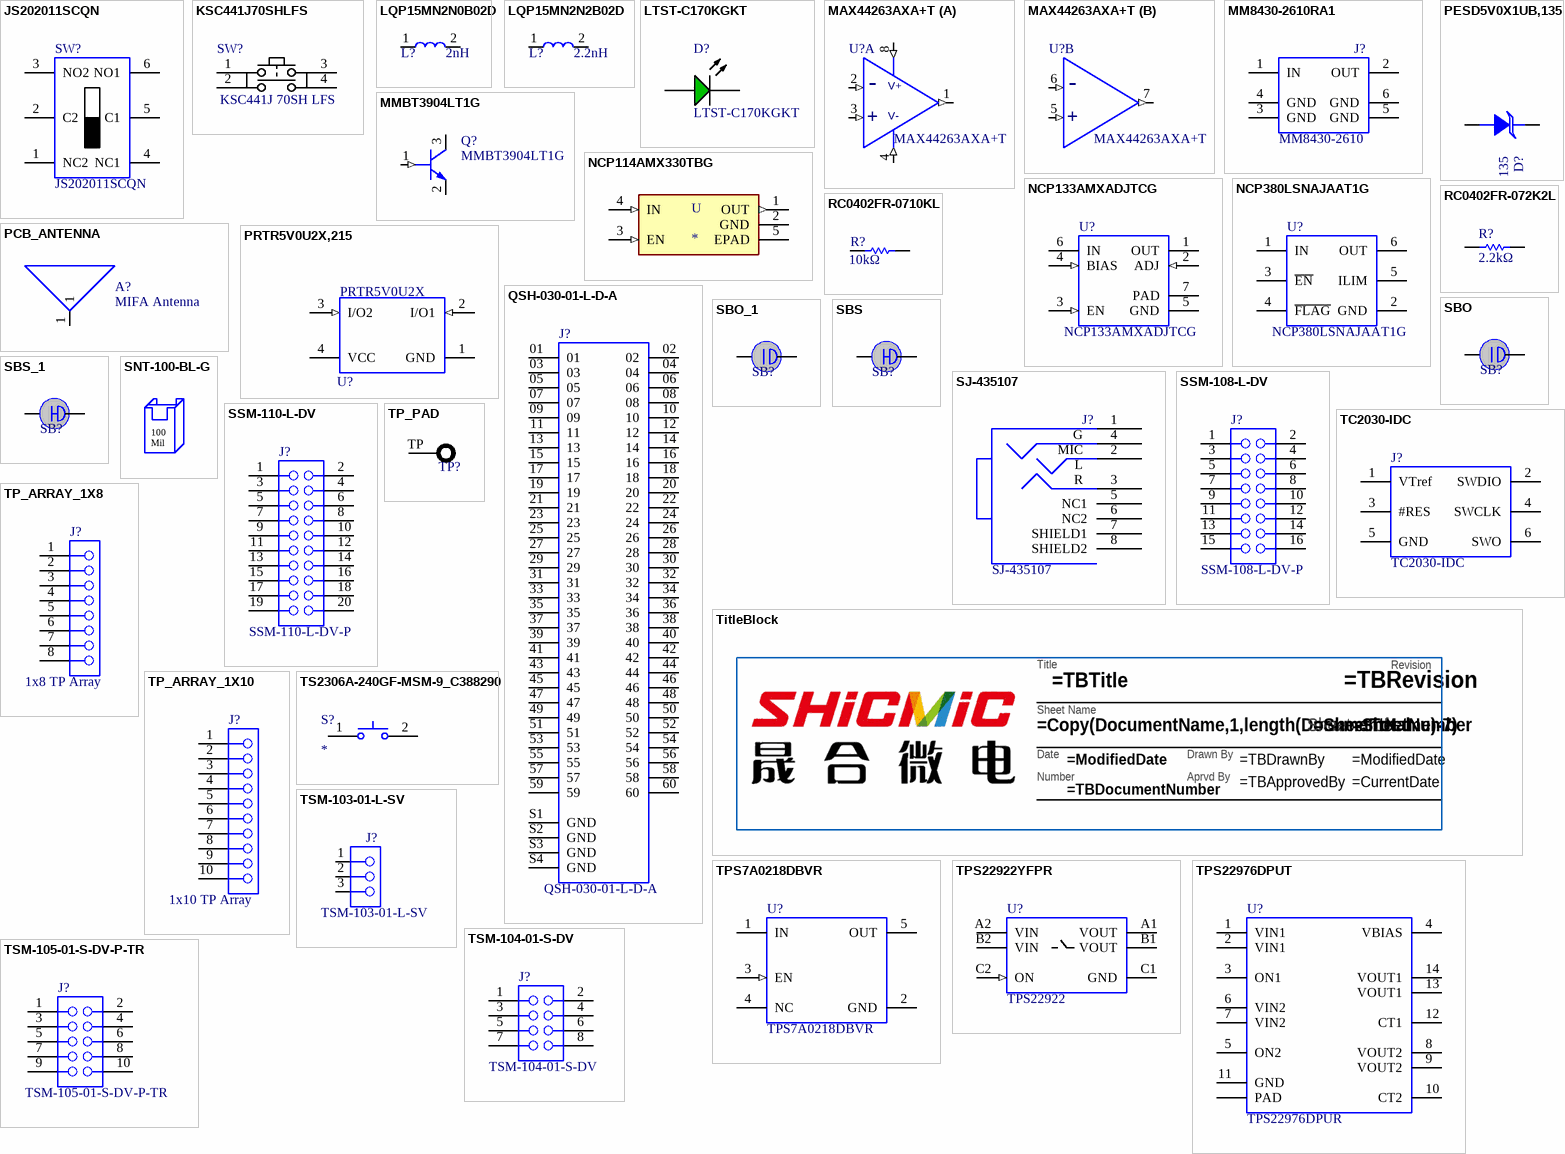
[diagram p2: symbols JS202011SCQN to TSM-105-01-S-DV-P-TR]

## JS202011SCQN
designator SW?
None; Manufacturer: ITT C&K; Actuator Material: Nylon,Polyamide,PA46; Actuator Color: Black; Voltage Rating (DC): 6V; Throw Configuration: DPDT; Contact Resistance: 70mR; Max Current Rating: 300mA; Electrical Life: 5000Cycles; Switch Travel: 2mm; Switch Function: On-On; Actuator Type: Standard; AMBIQ PN: JS202011SCQN; Supplier 1: Arrow Electronics; Supplier Part Number 1: JS202011SCQN; Manufacturer Part Number: JS202011SCQN; RoHS: Yes; Category: Slide Switches; Stock 1: 6839; Pricing 1: 1=0.49180, 10=0.48690, 25=0.45850, 100=0.40340, 250=0.35430, 500=0.33760, 1000=0.29540, 3000=0.27960, 6000=0.26000 (USD); Mount: Surface Mount; Package Quantity: 1; Series: JS; ComponentLink1URL: https://datasheet.ciiva.com/2889/js-29aug13-2889127.pdf?src-supplier=Digi-Key; ComponentLink1Description: https://datasheet.ciiva.com/2889/js-29aug13-2889127.pdf?src-supplier=Digi-Key; Contact Material: Copper Alloy; Contact Plating: Silver; Packaging: Tape and Reel; Termination: Gull Wing; Orientation: Vertical; Length: 9mm; Depth: 7.5mm; RoHS Compliant: Yes; REACH SVHC: No SVHC; Lead Free: Lead Free; ComponentLink2URL: https://datasheet.ciiva.com/23829/1707718-23829488.pdf?src-supplier=Newark; ComponentLink2Description: https://datasheet.ciiva.com/23829/1707718-23829488.pdf?src-supplier=Newark; ComponentLink3URL: https://datasheet.ciiva.com/22630/1707718-22630697.pdf?src-supplier=Element14; ComponentLink3Description: https://datasheet.ciiva.com/22630/1707718-22630697.pdf?src-supplier=Element14; ComponentLink4URL: https://datasheet.ciiva.com/2889/js-15sept15-2889128.pdf?src-supplier=Digi-Key; ComponentLink4Description: https://datasheet.ciiva.com/2889/js-15sept15-2889128.pdf?src-supplier=Digi-Key; ComponentLink5URL: https://datasheet.ciiva.com/2889/js-15sept15-2889129.pdf?src-supplier=Digi-Key; ComponentLink5Description: https://datasheet.ciiva.com/2889/js-15sept15-2889129.pdf?src-supplier=Digi-Key; ComponentLink6URL: https://datasheet.ciiva.com/8625/js-9dec14-8625470.pdf?src-supplier=Avnet; ComponentLink6Description: https://datasheet.ciiva.com/8625/js-9dec14-8625470.pdf?src-supplier=Avnet; Housing Material: Nylon; Min Operating Temperature: -20°C; Max Operating Temperature: 85°C; Max Voltage Rating (DC): 6V; Contact Current Rating: 300mA; Current Rating: 300mA; Actuator Length: 2mm; Radiation Hardening: No; Flammability Rating: UL94 V-2
footprint JS202011SCQN
pins: 1 NC2, 2 C2, 3 NO2, 4 NC1, 5 C1, 6 NO1

## KSC441J70SHLFS
designator SW?, comment KSC441J 70SH LFS
None; Manufacturer: ITT C&K; Voltage Rating (DC): 32V; Throw Configuration: SPST; Max Current Rating: 50mA; Switch Travel: 0.75mm; Switch Function: Off-Mom; Actuator Type: Standard; Actuator Length: 2.6mm; Mechanical Life: 300000Cycles; Operating Force: 5N; Power Rating: 1W; Illumination Type: Non-Illuminated,Illuminated; AMBIQ PN: KSC441J70SHLFS; Supplier 1: Newark; Supplier Part Number 1: 95W3295; Manufacturer Part Number: KSC441J70SHLFS; RoHS: Yes; Category: Tactile Switches; Stock 1: 1740; Pricing 1: 1=0.62700, 10=0.61200, 25=0.59100, 50=0.55000, 100=0.50900, 250=0.47500 (USD); Mount: Surface Mount; Package Quantity: 1000; Series: KSC; Contact Material: Silver; Contact Plating: Silver; Packaging: Tape and Reel; Termination: J-Bend; Orientation: Straight; Length: 6.2mm; Depth: 6.8mm; Size: 6.2mm; Min Operating Temperature: -40°C; Max Operating Temperature: 85°C; Max Voltage Rating (DC): 32V; Contact Current Rating: 50mA; Current Rating: 50mA
footprint SW4_SPST_7P7_SM
pins: 1 21, 2 22, 3 23, 4 24

## LQP15MN2N0B02D
designator L?, comment 2nH
NONE; Manufacturer: Murata; AMBIQ PN: LQP15MN2N0B02D; Core Material: Non-Magnetic; DC Resistance (DCR): 300mR; Max DC Current: 220mA; Test Frequency: 500MHz; Shielding: Unshielded; Q Factor: 13; Self Resonant Frequency: 6GHz; Current: 130mA; Supplier 1: Arrow Electronics; Supplier Part Number 1: LQP15MN2N0B02D; Manufacturer Part Number: LQP15MN2N0B02D; RoHS: Yes; Category: Fixed Inductors; Stock 1: 9090; Pricing 1: 1=0.18190, 10=0.16280, 25=0.16100, 100=0.10650, 250=0.10520, 500=0.08710, 1000=0.07690, 3000=0.05610, 6000=0.05560 (USD); RoHS Compliant: Yes; ComponentLink1URL: https://datasheet.ciiva.com/11798/0900766b810228cf-11798602.pdf?src-supplier=RSComponents; ComponentLink1Description: https://datasheet.ciiva.com/11798/0900766b810228cf-11798602.pdf?src-supplier=RSComponents; Mount: Surface Mount; Case/Package: 0402; Case Code (Metric): 1005; Case Code (Imperial): 0402; Min Operating Temperature: -40°C; Max Operating Temperature: 85°C; Packaging: Tape and Reel; Package Quantity: 10000; Termination: SMD/SMT; Series: LQP15M; Resistor Type: Thin Film; Length: 1mm; Width: 0.02inch; Height: 0.35mm; Depth: 0.6mm; Lead Free: Lead Free; REACH SVHC: No SVHC; ComponentLink2URL: https://datasheet.ciiva.com/6705/l0075s0084lqp15m-6705214.pdf?src-supplier=Digi-Key; ComponentLink2Description: https://datasheet.ciiva.com/6705/l0075s0084lqp15m-6705214.pdf?src-supplier=Digi-Key; ComponentLink3URL: https://datasheet.ciiva.com/6705/l0075s0084lqp15m-6705210.pdf?src-supplier=Digi-Key; ComponentLink3Description: https://datasheet.ciiva.com/6705/l0075s0084lqp15m-6705210.pdf?src-supplier=Digi-Key; ComponentLink4URL: https://datasheet.ciiva.com/4977/product-4977814.pdf?src-supplier=Mouser; ComponentLink4Description: https://datasheet.ciiva.com/4977/product-4977814.pdf?src-supplier=Mouser; ComponentLink5URL: https://datasheet.ciiva.com/8510/l0075s0084lqp15m-8510303.pdf?src-supplier=Avnet; ComponentLink5Description: https://datasheet.ciiva.com/8510/l0075s0084lqp15m-8510303.pdf?src-supplier=Avnet; ComponentLink6URL: https://datasheet.ciiva.com/16397/l0075s0084lqp15m-16397565.pdf?src-supplier=Future+Electronics; ComponentLink6Description: https://datasheet.ciiva.com/16397/l0075s0084lqp15m-16397565.pdf?src-supplier=Future+Electronics; Inductance: 2nH; Current Rating: 220mA; DC Current: 220mA; Technology: THIN FILM; Rated Current-Max: 220mA; Height - Seated (Max): 0.018inch; Radiation Hardening: No; Military Standard: Not
footprint IPC_A
footprint IPC_B
footprint IPC_C
footprint MFG
pins: 1, 2

## LQP15MN2N2B02D
designator L?, comment 2.2nH
NONE; Manufacturer: Murata; AMBIQ PN: LQP15MN2N2B02D; Core Material: Non-Magnetic; DC Resistance (DCR): 300mR; Max DC Current: 220mA; Test Frequency: 500MHz; Shielding: Unshielded; Q Factor: 13; Self Resonant Frequency: 6GHz; Supplier 1: Avnet; Supplier Part Number 1: LQP15MN2N2B02D; Manufacturer Part Number: LQP15MN2N2B02D; RoHS: Yes; Category: Fixed Inductors; Pricing 1: 10000=0.04609, 20000=0.04476, 40000=0.04342 (USD); RoHS Compliant: Yes; ComponentLink1URL: https://datasheet.ciiva.com/11801/0900766b80f155d9-11801394.pdf?src-supplier=RSComponents; ComponentLink1Description: https://datasheet.ciiva.com/11801/0900766b80f155d9-11801394.pdf?src-supplier=RSComponents; Mount: Surface Mount; Case/Package: 0402; Case Code (Metric): 1005; Case Code (Imperial): 0402; Min Operating Temperature: -40°C; Max Operating Temperature: 85°C; Packaging: Tape and Reel; Package Quantity: 10000; Termination: SMD/SMT; Series: LQP15M; Resistor Type: Thin Film; Length: 1.1mm; Width: 0.02inch; Height: 0.35mm; Depth: 0.6mm; Lead Free: Lead Free; ComponentLink2URL: https://datasheet.ciiva.com/1039/l0075s0084lqp15m-1039847.pdf?src-supplier=Digi-Key; ComponentLink2Description: https://datasheet.ciiva.com/1039/l0075s0084lqp15m-1039847.pdf?src-supplier=Digi-Key; ComponentLink3URL: https://datasheet.ciiva.com/1039/l0075s0084lqp15m-1039846.pdf?src-supplier=Digi-Key; ComponentLink3Description: https://datasheet.ciiva.com/1039/l0075s0084lqp15m-1039846.pdf?src-supplier=Digi-Key; ComponentLink4URL: https://datasheet.ciiva.com/1039/l0075s0084lqp15m-1039848.pdf?src-supplier=Digi-Key; ComponentLink4Description: https://datasheet.ciiva.com/1039/l0075s0084lqp15m-1039848.pdf?src-supplier=Digi-Key; Inductance: 2.2nH; Current Rating: 220mA; DC Current: 220mA; Technology: THIN FILM; Rated Current-Max: 220mA; Height - Seated (Max): 0.018inch; Radiation Hardening: No; Military Standard: Not
footprint IPC_A
footprint IPC_B
footprint IPC_C
footprint MFG
pins: 1, 2

## LTST-C170KGKT
designator D?, comment AMBIQ PN: LTST-C170KGKT  (hidden comment: Green LED)
None; Manufacturer: Vishay Lite-On; Forward Current: 30mA; Forward Voltage: 2V; Number of Elements: 1; Power Dissipation: 75mW; Lens Color: Colorless; Luminous Intensity: 35mcd; Viewing Angle: 130°; Lens Style: Diffused,Colorless,Clear,Rectangular; Lens Transparency: Clear; Test Current: 20mA; Dominant Wavelength: 571nm; Wavelength: 574nm; Reverse Voltage: 5V; Supplier 1: Arrow Electronics; Supplier Part Number 1: LTST-C170KGKT; Manufacturer Part Number: LTST-C170KGKT; RoHS: Yes; Category: LEDs; Stock 1: 33000; Pricing 1: 3000=0.03680, 6000=0.03650, 15000=0.03610, 30000=0.03280, 75000=0.02980 (USD); Case/Package: 0805; Number of Pins: 2; Min Operating Temperature: -55°C; Max Operating Temperature: 85°C; Packaging: Tape and Reel; Package Quantity: 1; Series: -; Length: 2mm; Width: 1.25mm; Height: 1.1mm; Radiation Hardening: No; RoHS Compliant: Yes; Lead Free: Lead Free; ComponentLink1URL: https://datasheet.ciiva.com/11775/0900766b80dc027a-11775627.pdf?src-supplier=RSComponents; ComponentLink1Description: https://datasheet.ciiva.com/11775/0900766b80dc027a-11775627.pdf?src-supplier=RSComponents; Mount: Surface Mount; Color: Green; Case Code (Metric): 2012; Case Code (Imperial): 0805; Illumination Color: Green; Power Rating: 75mW; Number of LEDs: 1; Depth: 1.25mm; ComponentLink2URL: https://datasheet.ciiva.com/12400/lite-on-ltst-c170kgkt-187430-12400681.pdf?src-supplier=Mouser
footprint LTST-C170KGKT
pins: 1 K, 2 A

## MAX44263AXA+T
designator U?
None; Manufacturer: Maxim; Max Supply Voltage: 5.5V; Min Supply Voltage: 1.8V; Bandwidth: 15MHz; Nominal Supply Current: 1uA; Operating Supply Current: 650uA; Number of Channels: 2; Input Bias Current: 0.01pA; Common Mode Rejection Ratio: 75dB; Slew Rate: 7V/µs; Voltage Gain: 115dB; Input Offset Voltage (Vos): 10uV; Output Current per Channel: 50mA; Amplifier Type: GENERAL PURPOSE; AMBIQ PN: MAX44263AXA+T; Manufacturer Part Number: MAX44263AXA+T; Supplier 1: Future Electronics; Supplier Part Number 1: 6085643; RoHS: Yes; Category: Amplifiers - Op Amps, Buffer, Instrumentation; Stock 1: 2500; Pricing 1: 2500=1.52000, 5000=1.49000 (USD); Case/Package: SC; Number of Pins: 8; Min Operating Temperature: -40°C; Max Operating Temperature: 125°C; Package Quantity: 2500; Packaging: Tape and Reel; Supply Current: 1uA; Series: -; REACH SVHC: Unknown; RoHS Compliant: Yes; ComponentLink1URL: https://datasheet.ciiva.com/14084/max44260-max44263-14084824.pdf?src-supplier=Digi-Key; ComponentLink1Description: https://datasheet.ciiva.com/14084/max44260-max44263-14084824.pdf?src-supplier=Digi-Key; Mount: Surface Mount; Gain Bandwidth Product: 15MHz; Number of Circuits: 2; Number of Amplifiers: 2; Technology: CMOS
footprint SC70_8_2X2MM
part A pins: 1 OUTB (out), 2 INB- (in), 3 INB+ (in), 4 VSS (in), 8 VDD (in)
part B pins: 5 INB+ (in), 6 INB- (in), 7 OUTB (out)
part A text: V+; +; V-
part B text: +

## MM8430-2610RA1
designator J?, comment MM8430-2610
None; Manufacturer: Murata; AMBIQ PN: MM8430-2610RA1; Connector Type: Socket; Impedance: 50R; Max Frequency: 6GHz; Polarity: Standard; Supplier 1: Arrow Electronics; Supplier Part Number 1: MM8430-2610RA1; Manufacturer Part Number: MM8430-2610RA1; RoHS: Yes; Category: RF / Coaxial Connectors; Stock 1: 2000; Pricing 1: 1000=0.24630, 2000=0.22530, 5000=0.21890, 10000=0.21150 (USD); Mount: Surface Mount; Case/Package: SMD/SMT; Contact Material: Copper Alloy; Contact Plating: Gold; Min Operating Temperature: -40°C; Max Operating Temperature: 85°C; Packaging: Tape and Reel; Orientation: Straight; Termination: Solder; Length: 3mm; ComponentLink1URL: https://datasheet.ciiva.com/642/o33e-642736.pdf?src-supplier=Digi-Key; ComponentLink1Description: https://datasheet.ciiva.com/642/o33e-642736.pdf?src-supplier=Digi-Key; Housing Color: Silver; Series: 8430; Depth: 3mm; Radiation Hardening: No; Package Quantity: 1; Lead Free: Lead Free; Insulation Material: Plastic; Fastening Type: Pull
footprint MM8430-2610
pins: 1 IN, 2 OUT, 3 GND (power), 4 GND (power), 5 GND (power), 6 GND (power)

## MMBT3904LT1G
designator Q?
None; Manufacturer: ON Semiconductor; Element Configuration: Single; Max Power Dissipation: 300mW; Polarity: NPN; Voltage Rating (DC): 40V; Current Rating: 200mA; Number of Elements: 1; Frequency: 300MHz; hFE Min: 100; Collector Base Voltage (VCBO): 60V; Emitter Base Voltage (VEBO): 6V; Collector Emitter Saturation Voltage: 300mV; Type: General Purpose; AMBIQ PN: MMBT3904LT1G; Supplier 1: RSComponents; Supplier Part Number 1: 5450343; Manufacturer Part Number: MMBT3904LT1G; RoHS: Yes; Category: BJTs; Stock 1: 150; Pricing 1: 50=0.12200, 100=0.09200, 250=0.09100, 500=0.09000, 1250=0.07100 (GBP); Case/Package: SOT-23-3; Number of Pins: 3; Contact Plating: Tin,Matte; Min Operating Temperature: -55°C; Max Operating Temperature: 150°C; Packaging: Tape and Reel; Package Quantity: 1; Series: -; Length: 2.9mm; Width: 1.3mm; Height: 0.94mm; Radiation Hardening: No; RoHS Compliant: Yes; REACH SVHC: No SVHC; Lead Free: Lead Free; ComponentLink1URL: https://datasheet.ciiva.com/4723/mmbt3904lt1-d-113169-4723050.pdf; ComponentLink1Description: https://datasheet.ciiva.com/4723/mmbt3904lt1-d-113169-4723050.pdf; Collector Emitter Voltage (VCEO): 40V; Max Collector Current: 200mA; Transition Frequency: 300MHz; Collector Emitter Breakdown Voltage: 40V; Max Breakdown Voltage: 40V; Power Dissipation: 300mW; Gain Bandwidth Product: 300MHz; Max Frequency: 300MHz; Collector-emitter Voltage-Max: 300mV
footprint SOT23-3N
pins: 1 BASE (in), 2 EMITTER, 3 COLLECTOR

## NCP114AMX330TBG
designator U
Linear Voltage Regulator IC Positive Fixed 1 Output 300mA 4-UDFN _1.0x1.0_; MP: NCP114AMX330TBG; MF: ON Semiconductor; Availability: Unavailable; Package: UDFN-4 ON Semiconductor; Value: *; Price: None; SnapEDA_Link: https://www.snapeda.com/parts/NCP114AMX330TBG/ON%20Semiconductor/view-part/711351/?ref=snap
footprint REG_NCP114AMX330TBG
pins: 1 OUT (out), 2 GND (power), 3 EN (in), 4 IN (in), 5 EPAD

## NCP133AMXADJTCG
designator U?
None; Manufacturer: ON Semiconductor; Output Type: Adjustable; Number of Outputs: 1; Max Output Current: 500mA; Output Voltage: 3.6V; Max Input Voltage: 5.5V; Min Input Voltage: 800mV; Polarity: Positive; Accuracy: 0.5%; Dropout Voltage: 140mV; Min Current Limit: 550mA; Power Supply Rejection Ratio (PSRR): 70dB; AMBIQ PN: NCP133AMXADJTCG; Manufacturer Part Number: NCP133AMXADJTCG; Supplier 1: Arrow Electronics; Supplier Part Number 1: NCP133AMXADJTCG; RoHS: Yes; Category: Voltage Regulators - Linear; Stock 1: 50943; Pricing 1: 1=0.67860, 10=0.59180, 100=0.45310, 250=0.42120, 500=0.35830, 1000=0.28640, 3000=0.26440 (USD); Number of Pins: 6; Contact Plating: Tin,Matte; Min Operating Temperature: -40°C; Max Operating Temperature: 85°C; Package Quantity: 3000; Packaging: Tape and Reel; REACH SVHC: No SVHC; Lead Free: Lead Free; RoHS Compliant: Yes; ComponentLink1URL: https://datasheet.ciiva.com/46403/1863238-46403671.pdf?src-supplier=Element14; ComponentLink1Description: https://datasheet.ciiva.com/46403/1863238-46403671.pdf?src-supplier=Element14; Mount: Surface Mount; Length: 1.2mm; Width: 1.2mm; Height: 0.4mm; Output Current: 500mA; Min Output Voltage: 800mV; Reference Voltage: 800mV; Max Output Voltage: 3.6V; Number of Regulators: 1
footprint SON40P120X45_HS-7N
pins: 1 OUT (power) "Regulated Output Voltage pin", 2 ADJ (in) "Adjustable Regulator Feedback Input. Connect to output voltage resistor divider central node. If fixed variant, True No Connect, and not internally connected.", 3 EN (in) "Enable pin. Driving this pin high enables the regulator. Driving this pin low puts the regulator into shutdown mode.", 4 BIAS (in) "Bias voltage supply for internal control circuits. This pin is monitored by internal UVLO circuit.", 5 GND "Ground", 6 IN (power) "Input Voltage Supply pin", 7 PAD "Should be soldered to the ground plane for increased thermal performance."

## NCP380LSNAJAAT1G
designator U?
None; Manufacturer: ON Semiconductor; Interface: On/Off; Number of Outputs: 1; Max Output Current: 1A; Output Configuration: High Side; Max Power Dissipation: 350mW; Current Rating: 2.1A; On-State Resistance: 70mR; On-state Resistance-Max: 110MR; Operating Supply Voltage: 5.5V; Min Input Voltage: 2.5V; Number of Inputs: 2; Turn-On Delay Time: 4ms; Turn-Off Delay Time: 3ms; AMBIQ PN: NCP380LSNAJAAT1G; Manufacturer Part Number: NCP380LSNAJAAT1G; Supplier 1: Newark; Supplier Part Number 1: 42Y0754; RoHS: Yes; Category: USB Interface ICs; Stock 1: 1700; Pricing 1: 1=0.83000, 10=0.73100, 25=0.68600, 50=0.62300, 100=0.56000, 250=0.52000, 500=0.44300, 1000=0.35400 (USD); Number of Pins: 6; Min Operating Temperature: -40°C; Max Operating Temperature: 85°C; Package Quantity: 1; Packaging: Tape and Reel; Series: -; Mount: Surface Mount; Length: 3mm; Width: 1.5mm; Height: 1mm; Number of Switches: 1; Rated Current-Max: 2.1A; Max Input Voltage: 5.5V; Case/Package: TSOP; Radiation Hardening: No
footprint TSOP6_1P70X3P10_ONS
pins: 1 IN (power), 2 GND (power), 3 ~{EN}, 4 ~{FLAG} (oc), 5 ILIM, 6 OUT (power)

## PCB_ANTENNA
designator A?, comment MIFA Antenna  (no BOM)
None; AMBIQ PN: PCB_ANTENNA
footprint PCB_MIFA_ANTENNA
footprint AP3EVB_MIFA_ANTENNA
pins: 1

## PESD5V0X1UB,135
designator D?
None; Manufacturer: Nexperia; AMBIQ PN: PESD5V0X1UB,135; Supplier 1: RSComponents; Supplier Part Number 1: 1704867; Manufacturer Part Number: PESD5V0X1UB,135; RoHS: Yes; Category: ESD and Circuit Protection ICs; Stock 1: 1; Pricing 1: 10000=0.12700 (USD); RoHS Compliant: Yes; ComponentLink1URL: https://www.mouser.com/ds/2/302/PESD5V0X1UB-1151612.pdf?src-supplier=Mouser; ComponentLink1Description: https://www.mouser.com/ds/2/302/PESD5V0X1UB-1151612.pdf?src-supplier=Mouser
footprint SC79
pins: 1 C, 2 A

## PRTR5V0U2X,215
designator U?, comment PRTR5V0U2X
None; Manufacturer: Nexperia; AMBIQ PN: PRTR5V0U2X,215; Manufacturer Part Number: PRTR5V0U2X,215; Supplier 1: Arrow Electronics; Supplier Part Number 1: PRTR5V0U2X,215; RoHS: Yes; Category: ESD and Circuit Protection ICs; Stock 1: 234000; Pricing 1: 3000=0.18050, 6000=0.16890, 15000=0.15880 (USD); RoHS Compliant: Yes; ComponentLink1URL: http://www.farnell.com/datasheets/109718.pdf?src-supplier=Farnell; ComponentLink1Description: http://www.farnell.com/datasheets/109718.pdf?src-supplier=Farnell; ComponentLink2URL: https://assets.nexperia.com/documents/data-sheet/PRTR5V0U2X.pdf?src-supplier=Digi-Key; ComponentLink2Description: https://assets.nexperia.com/documents/data-sheet/PRTR5V0U2X.pdf?src-supplier=Digi-Key
footprint SOT143L
pins: 1 GND (power), 2 I/O1 (in), 3 I/O2 (in), 4 VCC

## QSH-030-01-L-D-A
designator J?
None; Manufacturer: Samtec; Connector Type: Receptacle; Number of Contacts: 60; Current Rating: 1A; Pitch: 0.5mm; Row Spacing: 3.81mm; Max Voltage Rating (AC): 125V; Mated Stacking Heights: 25mm; AMBIQ PN: QSH-030-01-L-D-A; Supplier 1: Arrow Electronics; Supplier Part Number 1: QSH-030-01-L-D-A; Manufacturer Part Number: QSH-030-01-L-D-A; RoHS: Yes; Category: Board to Board Connectors; Stock 1: 434; Pricing 1: 96=10.29850 (USD); Mount: Surface Mount; Contact Material: Bronze; Contact Plating: Gold; Housing Material: Polymer; Min Operating Temperature: -55°C; Max Operating Temperature: 125°C; Packaging: Tray; Gender: Receptacle; Orientation: Straight; Termination: Solder; Length: 21.27mm; REACH SVHC: No SVHC; RoHS Compliant: Yes; ComponentLink1URL: https://datasheet.ciiva.com/25618/0900766b8115a597-25618083.pdf?src-supplier=RSComponents; ComponentLink1Description: https://datasheet.ciiva.com/25618/0900766b8115a597-25618083.pdf?src-supplier=RSComponents; Housing Color: Black; Number of Rows: 2; Number of Positions: 60; Series: Q Strip® QSH; Depth: 7.49mm; Radiation Hardening: No; Lead Free: Lead Free; Voltage Rating: 125V
footprint SAMTEC_QSH-030-01-X-D-A
pins: 01, 02, 03, 04, 05, 06, 07, 08, 09, 10, 11, 12, 13, 14, 15, 16, 17, 18, 19, 20, 21, 22, 23, 24, 25, 26, 27, 28, 29, 30, 31, 32, 33, 34, 35, 36, 37, 38, 39, 40, 41, 42, 43, 44, 45, 46, 47, 48, 49, 50, 51, 52, 53, 54, 55, 56, 57, 58, 59, 60, S1 GND (power), S2 GND (power), S3 GND (power), S4 GND (power)